# Altium schematic symbol library header-2x8.SchLib: 1 symbol
Pins are listed as number, name and electrical type; pins without a type are passive.

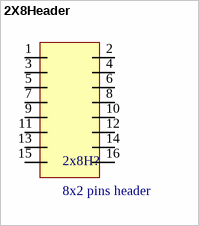
[diagram p0: symbol 2X8Header]

## 2X8Header
designator 2x8H?, comment 8x2 pins header
1-826925-0 2x10 with removed 2 pairs of pins
footprint 2x8HEADER (1-826925-0)
footprint 2x8HEADER (1-826925-0)
pins: 1, 2, 3, 4, 5, 6, 7, 8, 9, 10, 11, 12, 13, 14, 15, 16